# EAGLE library part CLVCH16T245MDGVREP (library U-TI-CLVCH16T245MDGxREP-16bit-TRX)
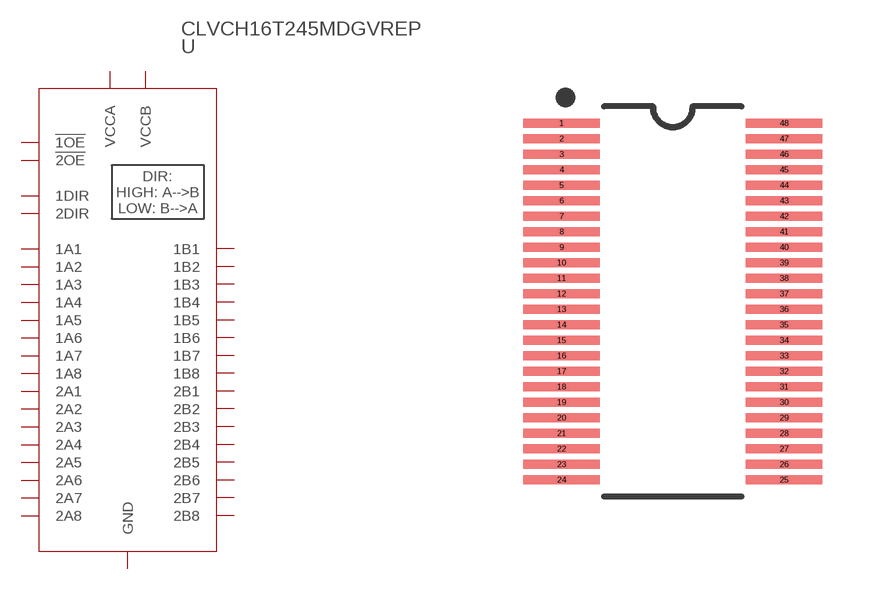
[diagram p1: symbol with the pads of DGV48-M; footprint DGV48-M]

Designator prefix U

## CLVCH16T245MDGVREPDGV48-M (MANUFACTURER_PART_NUMBER: CLVCH16T245MDGVREP; VENDOR: Texas Instruments)  [DGV48-M]
1  1DIR  in
2  1B1
3  1B2
4  GND  pwr
5  1B3
6  1B4
7  VCCB  pwr
8  1B5
9  1B6
10  GND  pwr
11  1B7
12  1B8
13  2B1
14  2B2
15  GND  pwr
16  2B3
17  2B4
18  VCCB  pwr
19  2B5
20  2B6
21  GND  pwr
22  2B7
23  2B8
24  2DIR  in
25  !2OE  in
26  2A8
27  2A7
28  GND  pwr
29  2A6
30  2A5
31  VCCA  pwr
32  2A4
33  2A3
34  GND  pwr
35  2A2
36  2A1
37  1A8
38  1A7
39  GND  pwr
40  1A6
41  1A5
42  VCCA  pwr
43  1A4
44  1A3
45  GND  pwr
46  1A2
47  1A1
48  !1OE  in

## Footprint DGV48-M (pad centres in mm)
smd 1.981 x 0.229: 1 -2.87,4.6; 2 -2.87,4.2; 3 -2.87,3.8; 4 -2.87,3.4; 5 -2.87,3; 6 -2.87,2.6; 7 -2.87,2.2; 8 -2.87,1.8; 9 -2.87,1.4; 10 -2.87,1; 11 -2.87,0.6; 12 -2.87,0.2; 13 -2.87,-0.2; 14 -2.87,-0.6; 15 -2.87,-1; 16 -2.87,-1.4; 17 -2.87,-1.8; 18 -2.87,-2.2; 19 -2.87,-2.6; 20 -2.87,-3; 21 -2.87,-3.4; 22 -2.87,-3.8; 23 -2.87,-4.2; 24 -2.87,-4.6; 25 2.87,-4.6; 26 2.87,-4.2; 27 2.87,-3.8; 28 2.87,-3.4; 29 2.87,-3; 30 2.87,-2.6; 31 2.87,-2.2; 32 2.87,-1.8; 33 2.87,-1.4; 34 2.87,-1; 35 2.87,-0.6; 36 2.87,-0.2; 37 2.87,0.2; 38 2.87,0.6; 39 2.87,1; 40 2.87,1.4; 41 2.87,1.8; 42 2.87,2.2; 43 2.87,2.6; 44 2.87,3; 45 2.87,3.4; 46 2.87,3.8; 47 2.87,4.2; 48 2.87,4.6